# Altium footprint library PCB - BATTERY HOLDER - TE BAT-HLD-003-SMT.PCBLIB: 1 footprints
Each footprint in its own frame and in the unit in brackets; x right, y up, seen from the top. Pads: shape width x height; smd on the part's side, far side on the other; paste and mask are expansions set on the pad; w line width, h text height; cw(c..) or ccw(c..) is an arc to the next point about the centre after c.
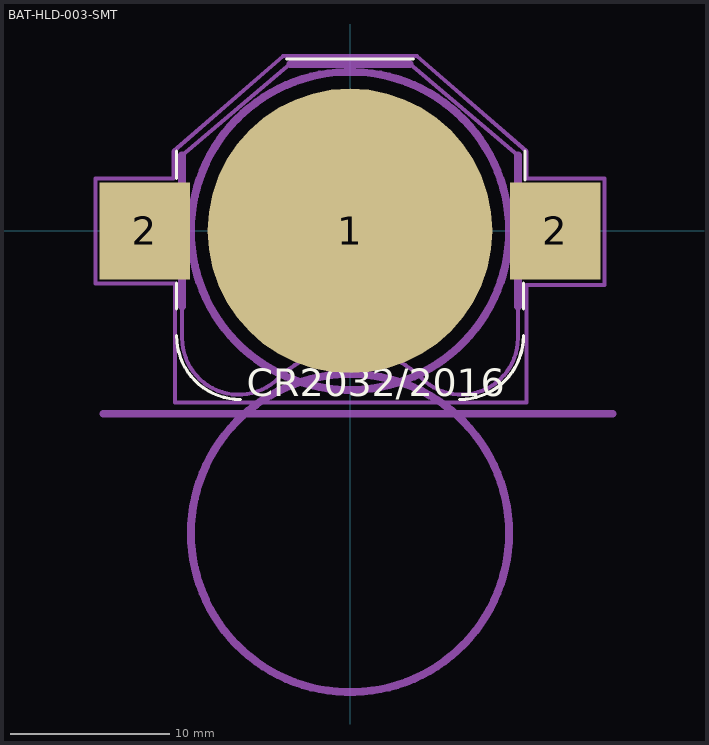
[diagram p0: the footprint, top view; thin cyan lines are the x and y axes]

## BAT-HLD-003-SMT [mm]
height 1.12
pads (3):
  round 17.9 smd: 1(0,0)
  rect 5.7x6.1 smd: 2(-12.9,0) 2(12.9,0)
Top Overlay:
  lines w0.2: -10.9,-6.6 ccw(c-6.9,-6.6) -6.9,-10.6 ; -10.9,-4.9 -10.9,-3.3 ; -10.9,3.3 -10.9,5 ; -4,10.8 4,10.8 ; 6.9,-10.6 ccw(c6.9,-6.6) 10.9,-6.6 ; 10.9,-4.9 10.9,-3.3 ; 11,3.2 11,5
  text "CR2032/2016" at -6.5,-11.008 h3
Top Assembly:
  circle w0.25: c-13,0 r1
  circle w0.25: c13,0 r1
  lines w0.25: -10.55,-4.75 -10.55,-6.75 ccw(c-7,-6.75) -4.49,-9.26 ; -10.55,-2.55 -15.25,-2.55 -15.25,2.55 -10.55,2.55 ; -10.55,4.75 -3.75,10.5 ; -7,-4.7 -3.6,-4.7 ; -7,-0.592 cw(c-5.3,2) -3.6,-0.592 ; -7,0.2 -3.6,0.2 ; -7,0.8 -3.6,0.8 ; 3.6,-4.7 7,-4.7 ; 3.6,-0.592 cw(c5.3,2) 7,-0.592 ; 3.6,0.2 7,0.2 ; 3.6,0.8 7,0.8 ; 3.75,10.5 10.55,4.75 ; 4.49,-9.26 ccw(c7,-6.75) 10.55,-6.75 10.55,-4.75 ; 10.55,-2.55 15.25,-2.55 15.25,2.55 10.55,2.55 ; -7,-5.3 -7,2 cw(c-5.3,2) -3.6,2 -3.6,-5.3 -7,-5.3 ; 3.6,-5.3 3.6,2 cw(c5.3,2) 7,2 7,-5.3 3.6,-5.3
  lines w0.254: -4.49,-9.26 cw(c0,-13.75) 4.49,-9.26
  lines w0.5: -10.55,-4.75 -10.55,4.75 ; -3.75,10.5 3.75,10.5 ; 10.55,-4.75 10.55,4.75
Board:
  lines w0.5: -15.5,-11.5 16.5,-11.5
Top Courtyard:
  circle w0.5: c0,0 r10
  circle w0.5: c0,-19 r10
  lines w0.25: -16,-3.3 -16,3.3 -11.1,3.3 -11.1,5 -4.2,11 4.2,11 11.1,5 11.1,3.3 16,3.3 16,-3.4 11.1,-3.4 11.1,-10.8 -11,-10.8 -11,-3.3 -11.2,-3.3 -16,-3.3
Top Component Center:
  lines w0.1: -0.5,0 0.5,0 ; 0,-0.5 0,0.5
3D body "CR2032.step": height 3.01, standoff 0, extent -9.997,-10 9.997,9.988
3D body "c-bat-hld-003-smt-b-3d.stp": height 3.95, standoff 0.05, extent -15.25,-9.3 15.25,10.5
3D body "CR2032.step": height 3.01, standoff 0, extent -9.997,-29 9.997,-9.012